# Altium schematic symbol library 电源开关.SchLib: 1 symbol
Pins are listed as number, name and electrical type; pins without a type are passive.

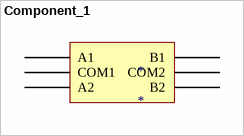
[diagram p0: symbol Component_1]

## Component_1
designator *
footprint PCBComponent_1 - duplicate1
pins: 1 A1, 2 COM1, 3 A2, 4 B1, 5 COM2, 6 B2